# Altium footprint library pico-clasp-4.PcbLib: 1 footprints
Each footprint in its own frame and in the unit in brackets; x right, y up, seen from the top. Pads: shape width x height; smd on the part's side, far side on the other; paste and mask are expansions set on the pad; w line width, h text height; cw(c..) or ccw(c..) is an arc to the next point about the centre after c.
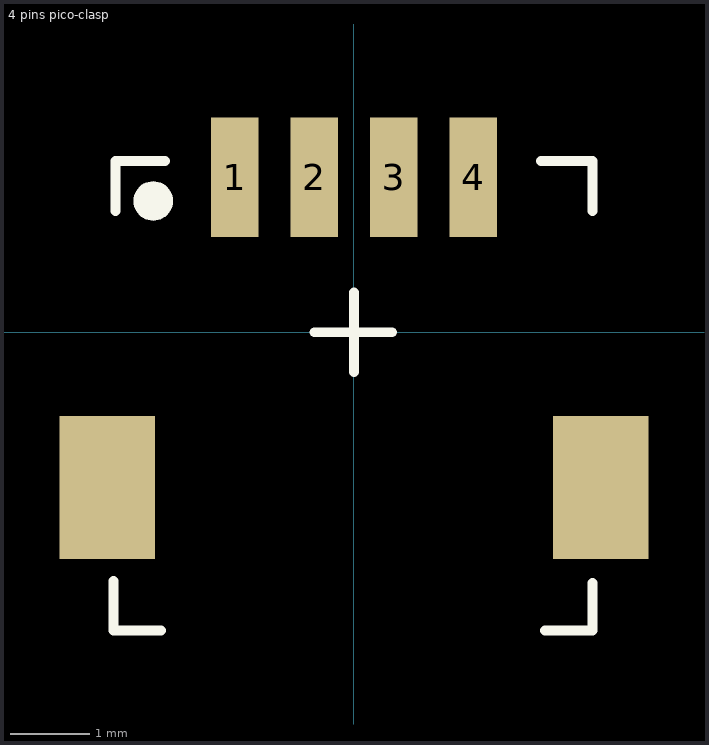
[diagram p0: the footprint, top view; thin cyan lines are the x and y axes]

## 4 pins pico-clasp [mm]
pads (7):
  rect 0.6x1.5 smd: 1(-1.5,1.95) 2(-0.5,1.95) 3(0.5,1.95) 4(1.5,1.95)
  rect 1.2x1.8 smd: ""(-3.1,-1.95) ""(3.1,-1.95)
  round 0.5 on Top Overlay: ""(-2.525,1.65)
Top Overlay:
  lines w0.125: -3.025,-3.125 -3.025,-3.75 -2.425,-3.75 ; -3,1.525 -3,2.15 -2.375,2.15 ; -0.5,0 0.475,0 ; 0,-0.5 0,0.5 ; 2.35,2.15 3,2.15 3,1.525 ; 2.4,-3.75 3,-3.75 3,-3.15
3D body "2023960407.stp": height 3.22, standoff 0.04, extent -3,-3.75 3,2.15